# EAGLE library part HDR5X2 (library wheat)
HEADER 5X2
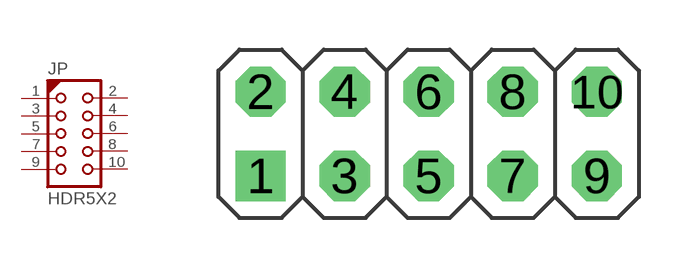
[diagram p25: symbol with the pads of HDR5X2; footprint HDR5X2]

Designator prefix JP

## HDR5X2  [HDR5X2]
1  1  pas
2  2  pas
3  3  pas
4  4  pas
5  5  pas
6  6  pas
7  7  pas
8  8  pas
9  9  pas
10  10  pas

## Footprint HDR5X2 (pad centres in mm)
HEADER 5X2
drill 1.016 square: 1 0,-2.54
drill 1.016 octagon: 2 0,0; 3 2.54,-2.54; 4 2.54,0; 5 5.08,-2.54; 6 5.08,0; 7 7.62,-2.54; 8 7.62,0; 9 10.16,-2.54; 10 10.16,0